# Altium schematic symbol library Connector-KF2EDGK.SchLib: 16 symbols
Pins are listed as number, name and electrical type; pins without a type are passive.

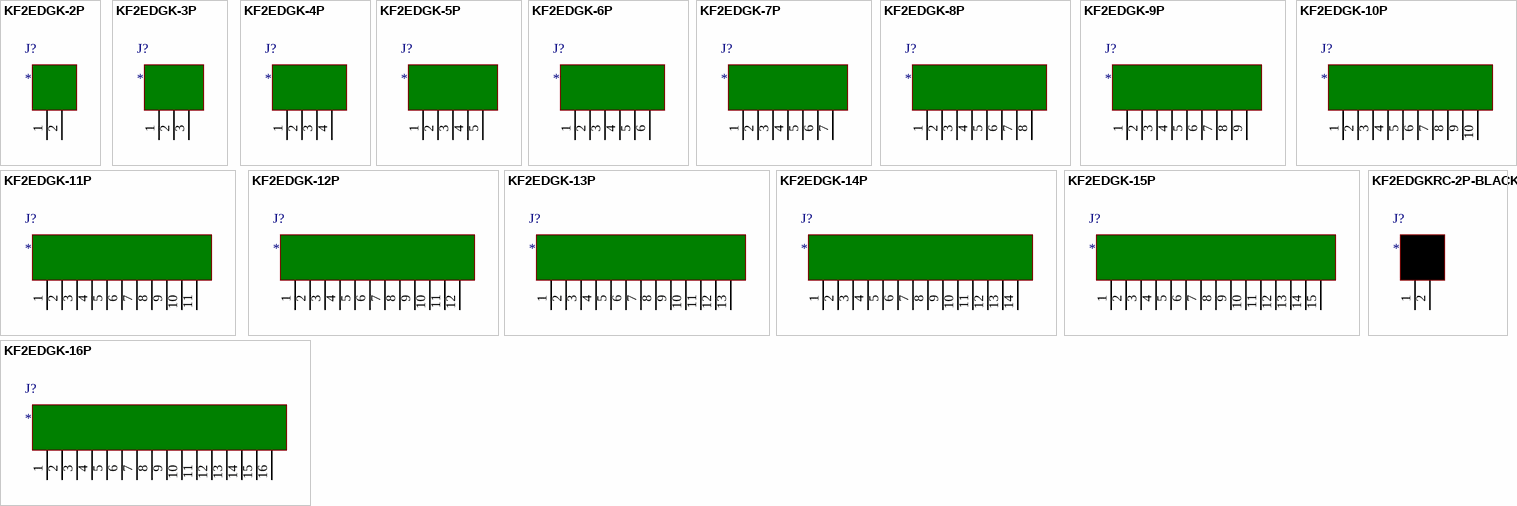
[diagram p0: symbols KF2EDGK-2P to KF2EDGKRC-2P-BLACK]

## KF2EDGK-2P
designator J?
拔插端子
footprint KF2EDGK5.0-2P
footprint KF2EDGK-2.54-2P
footprint KF2EDGK-2.54W-2P
footprint KF2EDGK5.08-2P
footprint KF2EDGK5.08W-2P
footprint KF2EDGRC-5.08W-2P (闭口)
footprint KF2EDGK5.08W-2P-Orange (DB2ER-5.08-2P-OG DORABO(地博电气))
pins: 1, 2

## KF2EDGK-3P
designator J?
footprint KF2EDGK5.0-3P
footprint KF2EDGK5.0W-3P
footprint KF2EDGK5.08W-3P
footprint KF2EDGK-2.54-3P
footprint KF2EDGK-2.54W-3P
footprint KF2EDGK5.08-3P
pins: 1, 2, 3

## KF2EDGK-4P
designator J?
footprint KF2EDGK5.0-4P
footprint KF2EDGK5.0W-4P
footprint KF2EDGK5.08-4P (立插端)
footprint KF2EDGK5.08W-4P
footprint KF2EDGK-2.54-4P
footprint KF2EDGK-2.54W-4P
pins: 1, 2, 3, 4

## KF2EDGK-5P
designator J?
footprint KF2EDGK5.0-5P
footprint KF2EDGK5.0W-5P
footprint KF2EDGK5.08-5P
footprint KF2EDGK5.08W-5P
footprint KF2EDGK-2.54-5P
footprint KF2EDGK-2.54W-5P
pins: 1, 2, 3, 4, 5

## KF2EDGK-6P
designator J?
footprint KF2EDGK5.0-6P
footprint KF2EDGK5.0W-6P
footprint KF2EDGK5.08-6P
footprint KF2EDGK5.08W-6P
footprint KF2EDGK-2.54-6P
footprint KF2EDGK-2.54W-6P
pins: 1, 2, 3, 4, 5, 6

## KF2EDGK-7P
designator J?
footprint KF2EDGK5.0-7P
footprint KF2EDGK5.0W-7P
footprint KF2EDGK5.08-7P
footprint KF2EDGK5.08W-7P
footprint KF2EDGK-2.54-7P
footprint KF2EDGK-2.54W-7P
pins: 1, 2, 3, 4, 5, 6, 7

## KF2EDGK-8P
designator J?
footprint KF2EDGK5.0-8P
footprint KF2EDGK5.0W-8P
footprint KF2EDGK5.08-8P
footprint KF2EDGK5.08W-8P
footprint KF2EDGK-2.54W-8P
footprint KF2EDGK-2.54-8P
pins: 1, 2, 3, 4, 5, 6, 7, 8

## KF2EDGK-9P
designator J?
footprint KF2EDGK5.0-9P
footprint KF2EDGK5.0W-9P
footprint KF2EDGK5.08-9P
footprint KF2EDGK5.08W-9P
footprint KF2EDGK-2.54W-9P
footprint KF2EDGK-2.54-9P
pins: 1, 2, 3, 4, 5, 6, 7, 8, 9

## KF2EDGK-10P
designator J?
footprint KF2EDGK5.0-10P
footprint KF2EDGK5.0W-10P
footprint KF2EDGK5.08-10P
footprint KF2EDGK5.08W-10P
footprint KF2EDGK-2.54W-10P (长：27.3mm，宽：10.1mm，高：8.1mm)
footprint KF2EDGK-2.54-10P
pins: 1, 2, 3, 4, 5, 6, 7, 8, 9, 10

## KF2EDGK-11P
designator J?
footprint KF2EDGK5.0-11P
footprint KF2EDGK5.0W-11P
footprint KF2EDGK5.08-11P
footprint KF2EDGK5.08W-11P
footprint KF2EDGK-2.54-11P
footprint KF2EDGK-2.54W-11P
pins: 1, 2, 3, 4, 5, 6, 7, 8, 9, 10, 11

## KF2EDGK-12P
designator J?
footprint KF2EDGK5.0-12P
footprint KF2EDGK5.08-12P (立插端)
footprint KF2EDGK5.0W-12P
footprint KF2EDGK5.08W-12P
footprint KF2EDGK-2.54W-12P
footprint KF2EDGK-2.54-12P
footprint KF2EDGK-3.5W-12P
pins: 1, 2, 3, 4, 5, 6, 7, 8, 9, 10, 11, 12

## KF2EDGK-13P
designator J?
footprint KF2EDGK5.0-13P
footprint KF2EDGK5.0W-13P
footprint KF2EDGK5.08-13P
footprint KF2EDGK5.08W-13P
footprint KF2EDGK-2.54W-13P
footprint KF2EDGK-2.54-13P
pins: 1, 2, 3, 4, 5, 6, 7, 8, 9, 10, 11, 12, 13

## KF2EDGK-14P
designator J?
footprint KF2EDGK5.0-14P
footprint KF2EDGK5.08-14P
footprint KF2EDGK5.0W-14P
footprint KF2EDGK5.08W-14P
footprint KF2EDGK-2.54W-14P
footprint KF2EDGK-2.54W-14P
pins: 1, 2, 3, 4, 5, 6, 7, 8, 9, 10, 11, 12, 13, 14

## KF2EDGK-15P
designator J?
footprint KF2EDGK5.0-15P
footprint KF2EDGK5.0W-15P
footprint KF2EDGK5.08W-15P
footprint KF2EDGK5.08-15P
footprint KF2EDGK-2.54W-15P
footprint KF2EDGK-2.54-15P
footprint Model Name (Model Description)
pins: 1, 2, 3, 4, 5, 6, 7, 8, 9, 10, 11, 12, 13, 14, 15

## KF2EDGK-16P
designator J?
footprint KF2EDGK-2.54-16P
footprint KF2EDGK-2.54W-16P
pins: 1, 2, 3, 4, 5, 6, 7, 8, 9, 10, 11, 12, 13, 14, 15, 16

## KF2EDGKRC-2P-BLACK
designator J?
拔插端子; Manufacturer_Name: DORABO(地博电气); Manufacturer_Part_Number: DB2ERC-5.08-2P-BK; LCSC: C430456; ComponentLink1Description: TAOBAO; ComponentLink1URL: https://item.taobao.com/item.htm?abbucket=6&id=776304044783&mi_id=0000td_9awiH914jKBUUUba916TJ4PTT2HKWbsoZ6ALH2aU&ns=1&priceTId=2147bf4e17604011366246365e1011&spm=a21n57.1.hoverItem.25&utparam=%7B%22aplus_abtest%22%3A%223be0fc1e91b45b451fd80a59e65f82f7%22%7D&xxc=taobaoSearch&skuId=5310236229497
footprint KF2EDGRC-5.08W-2P-BLACK (闭口 DB2ERC-5.08-2P-BK DORABO(地博电气))
pins: 1, 2